# Altium footprint library ds200-pcb.PcbLib: 1 footprints
Each footprint in its own frame and in the unit in brackets; x right, y up, seen from the top. Pads: shape width x height; smd on the part's side, far side on the other; paste and mask are expansions set on the pad; w line width, h text height; cw(c..) or ccw(c..) is an arc to the next point about the centre after c.
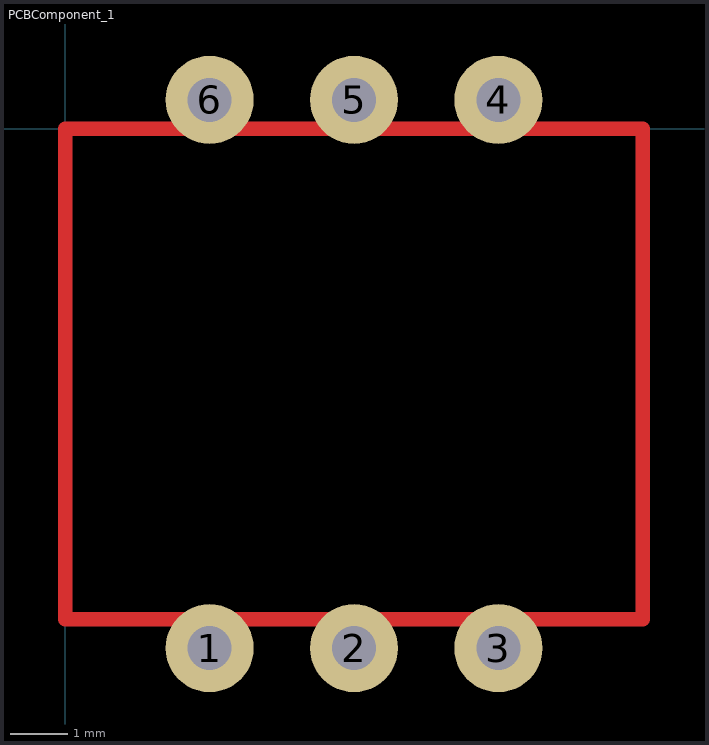
[diagram p0: the footprint, top view; thin cyan lines are the x and y axes]

## PCBComponent_1 [mil]
pads (6):
  round 60 hole 30: 1(98.43,-354.33) 2(196.85,-354.33) 3(295.28,-354.33) 4(295.28,19.68) 5(196.85,19.68) 6(98.43,19.68)
Top Layer:
  lines w10: 0,-334.65 0,0 393.7,0 393.7,-334.65 0,-334.65